# EAGLE library part DIL64 (library ic-package)
Dual In Line
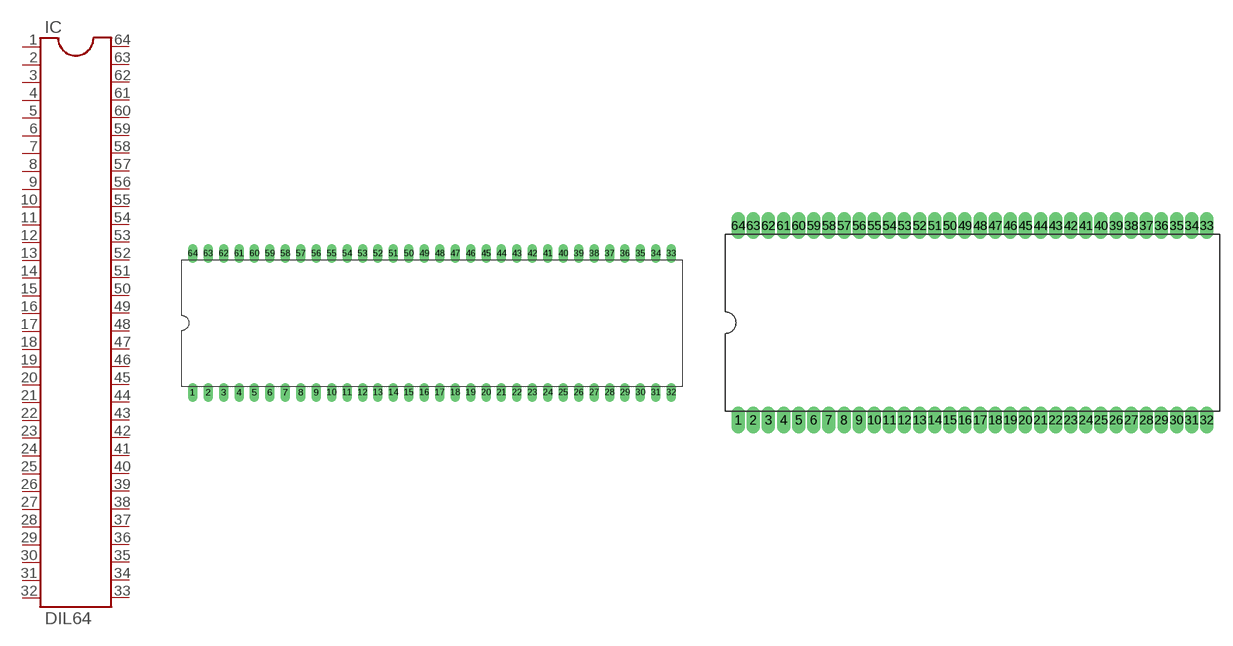
[diagram p13: symbol with the pads of DIL64; footprints DIL64, DIL64Y]

Designator prefix IC

## DIL64  [DIL64]
1  1  pas
2  2  pas
3  3  pas
4  4  pas
5  5  pas
6  6  pas
7  7  pas
8  8  pas
9  9  pas
10  10  pas
11  11  pas
12  12  pas
13  13  pas
14  14  pas
15  15  pas
16  16  pas
17  17  pas
18  18  pas
19  19  pas
20  20  pas
21  21  pas
22  22  pas
23  23  pas
24  24  pas
25  25  pas
26  26  pas
27  27  pas
28  28  pas
29  29  pas
30  30  pas
31  31  pas
32  32  pas
33  33  pas
34  34  pas
35  35  pas
36  36  pas
37  37  pas
38  38  pas
39  39  pas
40  40  pas
41  41  pas
42  42  pas
43  43  pas
44  44  pas
45  45  pas
46  46  pas
47  47  pas
48  48  pas
49  49  pas
50  50  pas
51  51  pas
52  52  pas
53  53  pas
54  54  pas
55  55  pas
56  56  pas
57  57  pas
58  58  pas
59  59  pas
60  60  pas
61  61  pas
62  62  pas
63  63  pas
64  64  pas

## DIL64YL  [DIL64Y]
Pads as for DIL64

## Footprint DIL64 (pad centres in mm)
Dual In Line Package
drill 0.813 pad 1.6 long: 1 -39.37,-11.43; 2 -36.83,-11.43; 3 -34.29,-11.43; 4 -31.75,-11.43; 5 -29.21,-11.43; 6 -26.67,-11.43; 7 -24.13,-11.43; 8 -21.59,-11.43; 9 -19.05,-11.43; 10 -16.51,-11.43; 11 -13.97,-11.43; 12 -11.43,-11.43; 13 -8.89,-11.43; 14 -6.35,-11.43; 15 -3.81,-11.43; 16 -1.27,-11.43; 17 1.27,-11.43; 18 3.81,-11.43; 19 6.35,-11.43; 20 8.89,-11.43; 21 11.43,-11.43; 22 13.97,-11.43; 23 16.51,-11.43; 24 19.05,-11.43; 25 21.59,-11.43; 26 24.13,-11.43; 27 26.67,-11.43; 28 29.21,-11.43; 29 31.75,-11.43; 30 34.29,-11.43; 31 36.83,-11.43; 32 39.37,-11.43; 33 39.37,11.43; 34 36.83,11.43; 35 34.29,11.43; 36 31.75,11.43; 37 29.21,11.43; 38 26.67,11.43; 39 24.13,11.43; 40 21.59,11.43; 41 19.05,11.43; 42 16.51,11.43; 43 13.97,11.43; 44 11.43,11.43; 45 8.89,11.43; 46 6.35,11.43; 47 3.81,11.43; 48 1.27,11.43; 49 -1.27,11.43; 50 -3.81,11.43; 51 -6.35,11.43; 52 -8.89,11.43; 53 -11.43,11.43; 54 -13.97,11.43; 55 -16.51,11.43; 56 -19.05,11.43; 57 -21.59,11.43; 58 -24.13,11.43; 59 -26.67,11.43; 60 -29.21,11.43; 61 -31.75,11.43; 62 -34.29,11.43; 63 -36.83,11.43; 64 -39.37,11.43

## Footprint DIL64Y (pad centres in mm)
Dual In Line, elongated pads
drill 0.813 pad 1.6 long: 1 -27.559,-11.43; 2 -25.781,-11.43; 3 -24.003,-11.43; 4 -22.225,-11.43; 5 -20.447,-11.43; 6 -18.669,-11.43; 7 -16.891,-11.43; 8 -15.113,-11.43; 9 -13.335,-11.43; 10 -11.557,-11.43; 11 -9.779,-11.43; 12 -8.001,-11.43; 13 -6.223,-11.43; 14 -4.445,-11.43; 15 -2.667,-11.43; 16 -0.889,-11.43; 17 0.889,-11.43; 18 2.667,-11.43; 19 4.445,-11.43; 20 6.223,-11.43; 21 8.001,-11.43; 22 9.779,-11.43; 23 11.557,-11.43; 24 13.335,-11.43; 25 15.113,-11.43; 26 16.891,-11.43; 27 18.669,-11.43; 28 20.447,-11.43; 29 22.225,-11.43; 30 24.003,-11.43; 31 25.781,-11.43; 32 27.559,-11.43; 33 27.559,11.43; 34 25.781,11.43; 35 24.003,11.43; 36 22.225,11.43; 37 20.447,11.43; 38 18.669,11.43; 39 16.891,11.43; 40 15.113,11.43; 41 13.335,11.43; 42 11.557,11.43; 43 9.779,11.43; 44 8.001,11.43; 45 6.223,11.43; 46 4.445,11.43; 47 2.667,11.43; 48 0.889,11.43; 49 -0.889,11.43; 50 -2.667,11.43; 51 -4.445,11.43; 52 -6.223,11.43; 53 -8.001,11.43; 54 -9.779,11.43; 55 -11.557,11.43; 56 -13.335,11.43; 57 -15.113,11.43; 58 -16.891,11.43; 59 -18.669,11.43; 60 -20.447,11.43; 61 -22.225,11.43; 62 -24.003,11.43; 63 -25.781,11.43; 64 -27.559,11.43